# EAGLE library part AP6015-25M10G-13 (library gothack-made)
AP6015
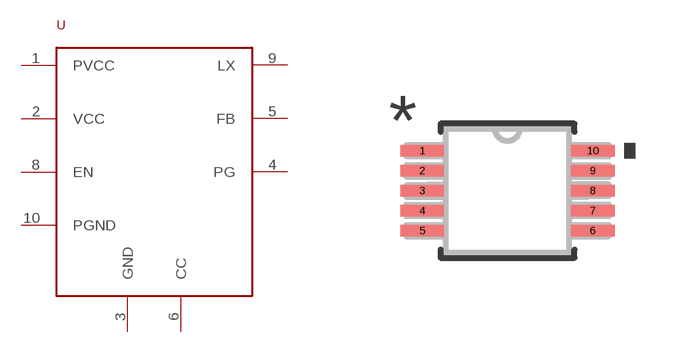
[diagram p2: symbol with the pads of MSOP-10_MS-L; footprint MSOP-10_MS-L]

Designator prefix -

## AP6015-25M10G-13  [MSOP-10_MS-L]
1  PVCC
2  VCC
3  GND
4  PG
5  FB
6  CC
8  EN
9  LX
10  PGND

## Footprint MSOP-10_MS-L (pad centres in mm)
smd 1.092 x 0.279: 1 -2.134,1.001; 2 -2.134,0.5; 3 -2.134,0; 4 -2.134,-0.5; 5 -2.134,-1.001; 6 2.134,-1.001; 7 2.134,-0.5; 8 2.134,0; 9 2.134,0.5; 10 2.134,1.001